# EAGLE library part ICE40HX1K-VQ100 (library ice40hx1k-vq100)
FPGA - Field Programmable Gate Array iCE40HX 1280 LUTs, 1.2V Ultra Low-Power, TQFP/VQ-100 package
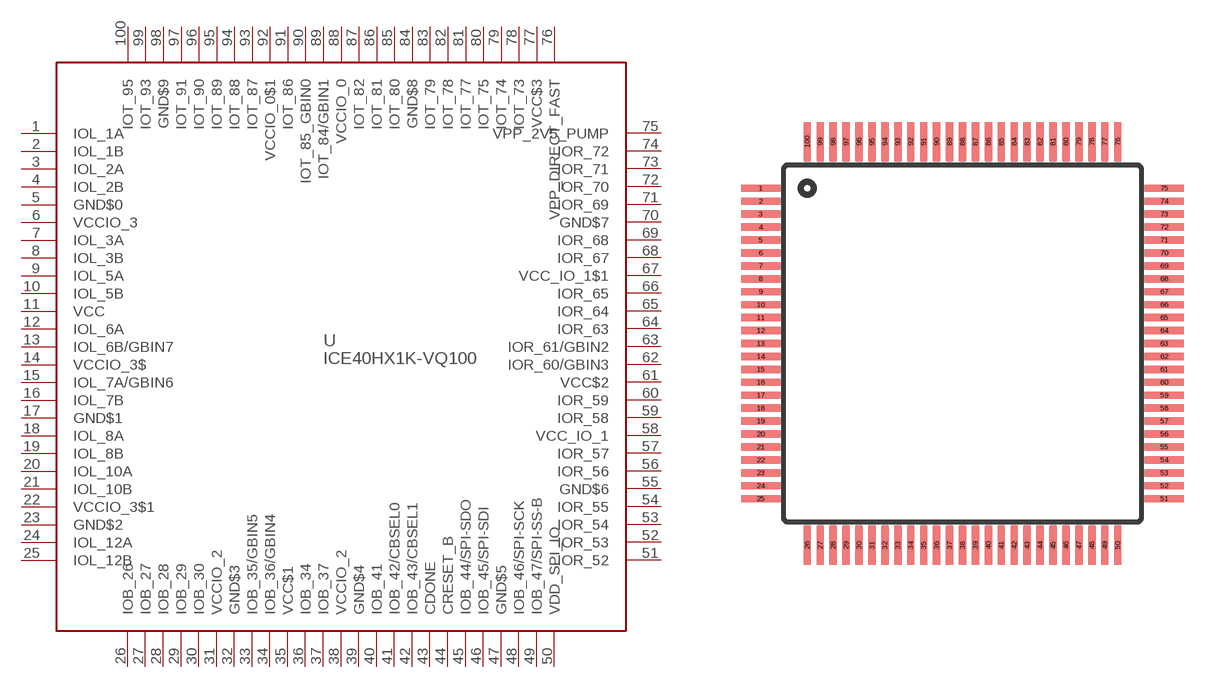
[diagram p0: symbol with the pads of TQFP100; footprint TQFP100]

Designator prefix -

## ICE40HX1K-VQ100VQ-100  [TQFP100]
1  IOL_1A
2  IOL_1B
3  IOL_2A
4  IOL_2B
5  GND$0  pwr
6  VCCIO_3  pwr
7  IOL_3A
8  IOL_3B
9  IOL_5A
10  IOL_5B
11  VCC  pwr
12  IOL_6A
13  IOL_6B/GBIN7
14  VCCIO_3$  pwr
15  IOL_7A/GBIN6
16  IOL_7B
17  GND$1  pwr
18  IOL_8A
19  IOL_8B
20  IOL_10A
21  IOL_10B
22  VCCIO_3$1  pwr
23  GND$2  pwr
24  IOL_12A
25  IOL_12B
26  IOB_26
27  IOB_27
28  IOB_28
29  IOB_29
30  IOB_30
31  VCCIO_2  pwr
32  GND$3  pwr
33  IOB_35/GBIN5
34  IOB_36/GBIN4
35  VCC$1
36  IOB_34
37  IOB_37
38  VCCIO_2  pwr
39  GND$4  pwr
40  IOB_41
41  IOB_42/CBSEL0
42  IOB_43/CBSEL1
43  CDONE  out
44  CRESET_B
45  IOB_44/SPI-SDO
46  IOB_45/SPI-SDI
47  GND$5  pwr
48  IOB_46/SPI-SCK
49  IOB_47/SPI-SS-B
50  VDD_SPI_IO  pwr
51  IOR_52
52  IOR_53
53  IOR_54
54  IOR_55
55  GND$6  pwr
56  IOR_56
57  IOR_57
58  VCC_IO_1  pwr
59  IOR_58
60  IOR_59
61  VCC$2
62  IOR_60/GBIN3
63  IOR_61/GBIN2
64  IOR_63
65  IOR_64
66  IOR_65
67  VCC_IO_1$1  pwr
68  IOR_67
69  IOR_68
70  GND$7
71  IOR_69
72  IOR_70
73  IOR_71
74  IOR_72  out
75  VPP_2V5_PUMP  pwr
76  VPP_DIRECT_FAST  pwr
77  VCC$3
78  IOT_73
79  IOT_74
80  IOT_75
81  IOT_77
82  IOT_78  pwr
83  IOT_79
84  GND$8  pwr
85  IOT_80
86  IOT_81
87  IOT_82
88  VCCIO_0  in
89  IOT_84/GBIN1  out
90  IOT_85_GBIN0
91  IOT_86
92  VCCIO_0$1  pwr
93  IOT_87
94  IOT_88
95  IOT_89
96  IOT_90
97  IOT_91
98  GND$9  pwr
99  IOT_93
100  IOT_95

## Footprint TQFP100 (pad centres in mm)
TQFP - 100 http://www.latticesemi.com/lit/docs/package/pkg.pdf
smd 1.5 x 0.285: 1 -7.8,6; 2 -7.8,5.5; 3 -7.8,5; 4 -7.8,4.5; 5 -7.8,4; 6 -7.8,3.5; 7 -7.8,3; 8 -7.8,2.5; 9 -7.8,2; 10 -7.8,1.5; 11 -7.8,1; 12 -7.8,0.5; 13 -7.8,0; 14 -7.8,-0.5; 15 -7.8,-1; 16 -7.8,-1.5; 17 -7.8,-2; 18 -7.8,-2.5; 19 -7.8,-3; 20 -7.8,-3.5; 21 -7.8,-4; 22 -7.8,-4.5; 23 -7.8,-5; 24 -7.8,-5.5; 25 -7.8,-6; 51 7.8,-6; 52 7.8,-5.5; 53 7.8,-5; 54 7.8,-4.5; 55 7.8,-4; 56 7.8,-3.5; 57 7.8,-3; 58 7.8,-2.5; 59 7.8,-2; 60 7.8,-1.5; 61 7.8,-1; 62 7.8,-0.5; 63 7.8,0; 64 7.8,0.5; 65 7.8,1; 66 7.8,1.5; 67 7.8,2; 68 7.8,2.5; 69 7.8,3; 70 7.8,3.5; 71 7.8,4; 72 7.8,4.5; 73 7.8,5; 74 7.8,5.5; 75 7.8,6
smd 0.285 x 1.5: 26 -6,-7.8; 27 -5.5,-7.8; 28 -5,-7.8; 29 -4.5,-7.8; 30 -4,-7.8; 31 -3.5,-7.8; 32 -3,-7.8; 33 -2.5,-7.8; 34 -2,-7.8; 35 -1.5,-7.8; 36 -1,-7.8; 37 -0.5,-7.8; 38 0,-7.8; 39 0.5,-7.8; 40 1,-7.8; 41 1.5,-7.8; 42 2,-7.8; 43 2.5,-7.8; 44 3,-7.8; 45 3.5,-7.8; 46 4,-7.8; 47 4.5,-7.8; 48 5,-7.8; 49 5.5,-7.8; 50 6,-7.8; 76 6,7.8; 77 5.5,7.8; 78 5,7.8; 79 4.5,7.8; 80 4,7.8; 81 3.5,7.8; 82 3,7.8; 83 2.5,7.8; 84 2,7.8; 85 1.5,7.8; 86 1,7.8; 87 0.5,7.8; 88 0,7.8; 89 -0.5,7.8; 90 -1,7.8; 91 -1.5,7.8; 92 -2,7.8; 93 -2.5,7.8; 94 -3,7.8; 95 -3.5,7.8; 96 -4,7.8; 97 -4.5,7.8; 98 -5,7.8; 99 -5.5,7.8; 100 -6,7.8